# Altium footprint library Radar_10GHz.PcbLib: 6 footprints
Each footprint in its own frame and in the unit in brackets; x right, y up, seen from the top. Pads: shape width x height; smd on the part's side, far side on the other; paste and mask are expansions set on the pad; w line width, h text height; cw(c..) or ccw(c..) is an arc to the next point about the centre after c.
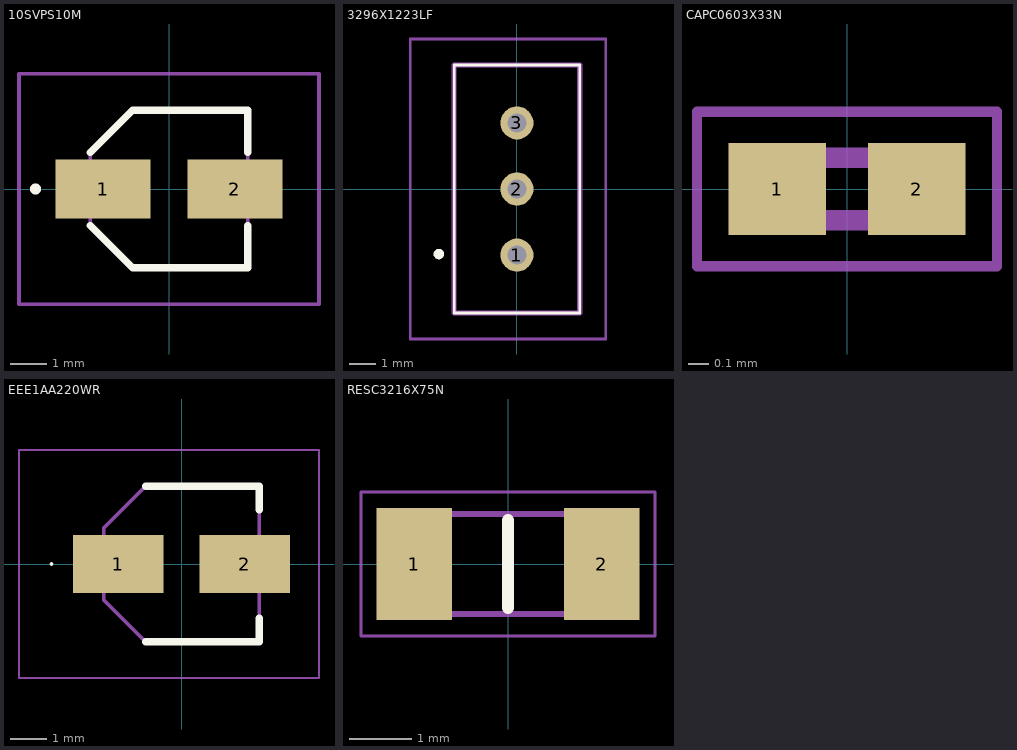
[diagram p0: the footprints below, top view; thin cyan lines are the x and y axes]

## 10SVPS10M [mm]
pads (2):
  rect 2.6x1.6 smd: 1(-1.8,0) 2(1.8,0)
Top Overlay:
  lines w0.2: -2.15,-1 -1,-2.15 2.15,-2.15 2.15,-1 ; -2.15,1 -1,2.15 2.15,2.15 2.15,1 ; -3.7,0 cw(c-3.65,0) -3.6,0 ; -3.7,0 ccw(c-3.65,0) -3.6,0 ; -3.7,0 cw(c-3.65,0) -3.6,0
Mechanical 13:
  lines w0.1: -2.15,-1 -1,-2.15 2.15,-2.15 2.15,2.15 -1,2.15 -2.15,1 -2.15,-1
Mechanical 15:
  lines w0.1: -4.1,-3.15 4.1,-3.15 4.1,3.15 -4.1,3.15 -4.1,-3.15
3D body "10SVP4R7M.stp": height 5.4, standoff 0, extent -2.5,-2.15 2.5,2.15

## 3296X1223LF [mm]
pads (3):
  round 1.269 hole 0.74: 1(0,-2.54) 2(0,0) 3(0,2.54)
Top Overlay:
  lines w0.1: -2.415,-4.765 -2.415,4.765 2.415,4.765 2.415,-4.765 -2.415,-4.765
  lines w0.2: -3,-2.6 cw(c-3,-2.5) -3,-2.4 cw(c-3,-2.5) -3,-2.6
Mechanical 13:
  lines w0.2: -2.415,-4.765 -2.415,4.765 2.415,4.765 2.415,-4.765 -2.415,-4.765
Mechanical 15:
  lines w0.1: -4.1,-5.765 -4.1,5.765 3.415,5.765 3.415,-5.765 -4.1,-5.765
3D body "3296X-1-501RLF.stp": height 10.03, standoff -6.02, extent -2,-4.8 2.83,6.25

## CAPC0603X33N [mm]
pads (2):
  rect 0.47x0.44 smd: 1(-0.335,0) 2(0.335,0)
Mechanical 13:
  lines w0.1: -0.3,-0.15 0.3,-0.15 0.3,0.15 -0.3,0.15 -0.3,-0.15
Mechanical 15:
  lines w0.05: -0.72,-0.37 0.72,-0.37 0.72,0.37 -0.72,0.37 -0.72,-0.37
3D body "02013A101GAT2A.stp": height 0.33, standoff 0, extent -0.3,-0.15 0.3,0.15

## EEE1AA220WR [mm]
pads (2):
  rect 2.5x1.6 smd: 1(-1.75,0) 2(1.75,0)
Top Overlay:
  lines w0.05: -3.625,0 ccw(c-3.6,0) -3.575,0 ccw(c-3.6,0) -3.625,0
  lines w0.2: -1,-2.15 2.15,-2.15 2.15,-1.5 ; 2.15,2.15 -1,2.15 2.15,2.15 ; 2.15,2.15 2.15,1.5 2.15,2.15
Mechanical 13:
  lines w0.1: -2.15,1 -1,2.15 ; -2.15,1 -2.15,-1 -1,-2.15 2.15,-2.15 2.15,2.15 -1,2.15 ; -2.15,1 -1,2.15
Mechanical 15:
  lines w0.05: -4.5,-3.15 3.8,-3.15 3.8,3.15 -4.5,3.15 -4.5,-3.15
3D body "EEE-FK1H4R7R.stp": height 5.78, standoff -0.02, extent -2.5,-2.15 2.5,2.15

## PCBComponent_1 [mm]

## RESC3216X75N [mm]
pads (2):
  rect 1.2x1.8 smd: 1(-1.5,0) 2(1.5,0)
Top Overlay:
  lines w0.2: 0,-0.7 0,0.7
Mechanical 13:
  lines w0.1: -1.6,-0.8 -1.6,0.8 1.6,0.8 1.6,-0.8 -1.6,-0.8
Mechanical 15:
  lines w0.05: -2.35,-1.15 -2.35,1.15 2.35,1.15 2.35,-1.15 -2.35,-1.15
3D body "CR1206-FX-7500ELF.stp": height 0.75, standoff 0, extent -1.6,-0.8 1.6,0.8